# Altium integrated library TI_Logic_Flip-Flop,Latch,Register.IntLib: 2598 symbols (part 14 of 122)
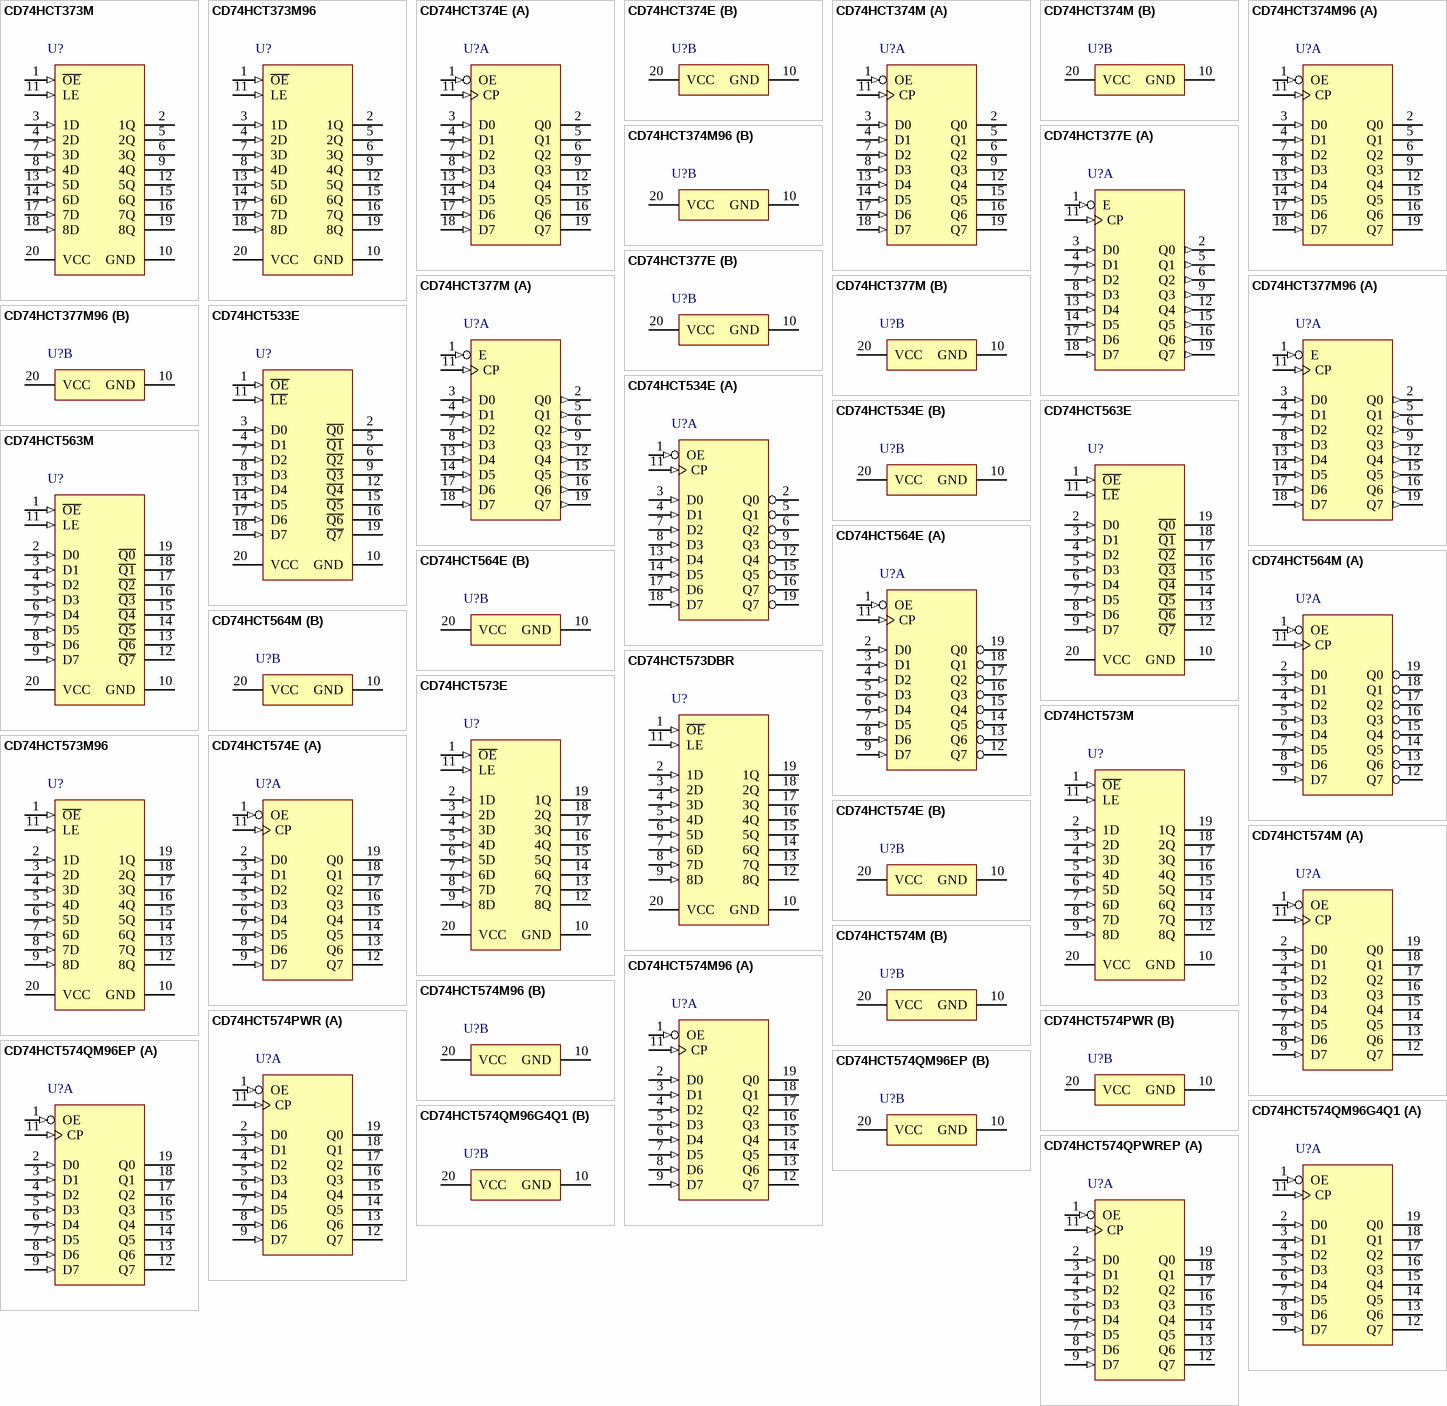
[diagram p152: symbols CD74HCT373M to CD74HCT574QPWREP]

## CD74HCT574E
designator U?
High Speed CMOS Logic Octal Positive-Edge-Triggered D-Type Flip-Flops with 3-State Outputs, N0020A, TUBE; Generic Part Number: CD74HCT574; Manufacturer: Texas Instruments; PartNumber: CD74HCT574E; VCC(Min)(V): 4.5; VCC(Max)(V): 5.5; ICC @ Nom Voltage(Max)(mA): 0.08; Input Type: TTL; Bits(#): 8; F @ Nom Voltage(Max)(Mhz): 25; Rating: Catalog; Technology Family: HCT; Voltage(Nom)(V): 5; Schmitt Trigger: No; Output Drive (IOL/IOH)(Max)(mA): 6/-6; Output Logic: Non-inverted; 3-State Output: Yes; tpd @ Nom Voltage(Max)(ns): 41; DatasheetVersion: SCHS183C; PackageReference: N0020A; Supplier 1: Digi-Key; Supplier Part Number 1: 296-2129-5-ND; Supplier 2: Farnell; Supplier Part Number 2: 2148426; Supplier 3: Newark; Supplier Part Number 3: 67K0129; Supplier 4: Mouser; Supplier Part Number 4: 595-CD74HCT574E; Output Type: CMOS; Operating Temperature Range(C): -55 to 125; Code_JEDEC: MS-001; ComponentLink1Description: Manufacturer URL; ComponentLink1URL: http://www.ti.com/; ComponentLink2Description: Datasheet; ComponentLink2URL: http://www.ti.com/lit/ds/symlink/cd74hct574.pdf; ComponentLink3Description: Package Specification; ComponentLink3URL: http://www.ti.com/lit/ml/mpdi002c/mpdi002c.pdf
footprint N0020A (DIP, 20-Leads, Body 26.9x6.6mm, Pitch 2.54mm)
part A pins: 1 OE (in), 2 D0 (in), 3 D1 (in), 4 D2 (in), 5 D3 (in), 6 D4 (in), 7 D5 (in), 8 D6 (in), 9 D7 (in), 11 CP (in), 12 Q7 (hiz), 13 Q6 (hiz), 14 Q5 (hiz), 15 Q4 (hiz), 16 Q3 (hiz), 17 Q2 (hiz), 18 Q1 (hiz), 19 Q0 (hiz)
part B pins: 10 GND (power), 20 VCC (power)

## CD74HCT574M
designator U?
High Speed CMOS Logic Octal Positive-Edge-Triggered D-Type Flip-Flops with 3-State Outputs, DW0020A, TUBE; Generic Part Number: CD74HCT574; Manufacturer: Texas Instruments; PartNumber: CD74HCT574M; VCC(Min)(V): 4.5; VCC(Max)(V): 5.5; ICC @ Nom Voltage(Max)(mA): 0.08; Input Type: TTL; Bits(#): 8; F @ Nom Voltage(Max)(Mhz): 25; Rating: Catalog; Technology Family: HCT; Voltage(Nom)(V): 5; Schmitt Trigger: No; Output Drive (IOL/IOH)(Max)(mA): 6/-6; Output Logic: Non-inverted; 3-State Output: Yes; tpd @ Nom Voltage(Max)(ns): 41; DatasheetVersion: SCHS183C; PackageReference: DW0020A; Supplier 1: Digi-Key; Supplier Part Number 1: 296-33162-5-ND; Supplier 2: Farnell; Supplier Part Number 2: 1103146; Supplier 3: Newark; Supplier Part Number 3: 25M8618; Supplier 4: Mouser; Supplier Part Number 4: 595-CD74HCT574M; Output Type: CMOS; Operating Temperature Range(C): -55 to 125; Code_JEDEC: MS-013; ComponentLink1Description: Manufacturer URL; ComponentLink1URL: http://www.ti.com/; ComponentLink2Description: Datasheet; ComponentLink2URL: http://www.ti.com/lit/ds/symlink/cd74hct574.pdf; ComponentLink3Description: Package Specification; ComponentLink3URL: http://www.ti.com/lit/ml/mpds173a/mpds173a.pdf
footprint DW0020A_N (SOIC, 20-Leads, Body 13x7.6mm, Pitch 1.27mm, IPC Medium Density)
footprint DW0020A_M (SOIC, 20-Leads, Body 13x7.6mm, Pitch 1.27mm, IPC Low Density)
footprint DW0020A_L (SOIC, 20-Leads, Body 13x7.6mm, Pitch 1.27mm, IPC High Density)
part A pins: 1 OE (in), 2 D0 (in), 3 D1 (in), 4 D2 (in), 5 D3 (in), 6 D4 (in), 7 D5 (in), 8 D6 (in), 9 D7 (in), 11 CP (in), 12 Q7 (hiz), 13 Q6 (hiz), 14 Q5 (hiz), 15 Q4 (hiz), 16 Q3 (hiz), 17 Q2 (hiz), 18 Q1 (hiz), 19 Q0 (hiz)
part B pins: 10 GND (power), 20 VCC (power)

## CD74HCT574M96
designator U?
High Speed CMOS Logic Octal Positive-Edge-Triggered D-Type Flip-Flops with 3-State Outputs, DW0020A, LARGE T&R; Generic Part Number: CD74HCT574; Manufacturer: Texas Instruments; PartNumber: CD74HCT574M96; VCC(Min)(V): 4.5; VCC(Max)(V): 5.5; ICC @ Nom Voltage(Max)(mA): 0.08; Input Type: TTL; Bits(#): 8; F @ Nom Voltage(Max)(Mhz): 25; Rating: Catalog; Technology Family: HCT; Voltage(Nom)(V): 5; Schmitt Trigger: No; Output Drive (IOL/IOH)(Max)(mA): 6/-6; Output Logic: Non-inverted; 3-State Output: Yes; tpd @ Nom Voltage(Max)(ns): 41; DatasheetVersion: SCHS183C; PackageReference: DW0020A; Supplier 1: Digi-Key; Supplier Part Number 1: 296-9292-2-ND; Supplier 2: Digi-Key; Supplier Part Number 2: 296-9292-1-ND; Supplier 3: Digi-Key; Supplier Part Number 3: 296-9292-6-ND; Supplier 4: Newark; Supplier Part Number 4: 05B6075; Supplier 5: Mouser; Supplier Part Number 5: 595-CD74HCT574M96; Output Type: CMOS; Operating Temperature Range(C): -55 to 125; Code_JEDEC: MS-013; ComponentLink1Description: Manufacturer URL; ComponentLink1URL: http://www.ti.com/; ComponentLink2Description: Datasheet; ComponentLink2URL: http://www.ti.com/lit/ds/symlink/cd74hct574.pdf; ComponentLink3Description: Package Specification; ComponentLink3URL: http://www.ti.com/lit/ml/mpds173a/mpds173a.pdf
footprint DW0020A_N (SOIC, 20-Leads, Body 13x7.6mm, Pitch 1.27mm, IPC Medium Density)
footprint DW0020A_M (SOIC, 20-Leads, Body 13x7.6mm, Pitch 1.27mm, IPC Low Density)
footprint DW0020A_L (SOIC, 20-Leads, Body 13x7.6mm, Pitch 1.27mm, IPC High Density)
part A pins: 1 OE (in), 2 D0 (in), 3 D1 (in), 4 D2 (in), 5 D3 (in), 6 D4 (in), 7 D5 (in), 8 D6 (in), 9 D7 (in), 11 CP (in), 12 Q7 (hiz), 13 Q6 (hiz), 14 Q5 (hiz), 15 Q4 (hiz), 16 Q3 (hiz), 17 Q2 (hiz), 18 Q1 (hiz), 19 Q0 (hiz)
part B pins: 10 GND (power), 20 VCC (power)

## CD74HCT574PWR
designator U?
High Speed CMOS Logic Octal Positive-Edge-Triggered D-Type Flip-Flops with 3-State Outputs, PW0020A, LARGE T&R; Generic Part Number: CD74HCT574; Manufacturer: Texas Instruments; PartNumber: CD74HCT574PWR; VCC(Min)(V): 4.5; VCC(Max)(V): 5.5; ICC @ Nom Voltage(Max)(mA): 0.08; Input Type: TTL; Bits(#): 8; F @ Nom Voltage(Max)(Mhz): 25; Rating: Catalog; Technology Family: HCT; Voltage(Nom)(V): 5; Schmitt Trigger: No; Output Drive (IOL/IOH)(Max)(mA): 6/-6; Output Logic: Non-inverted; 3-State Output: Yes; tpd @ Nom Voltage(Max)(ns): 41; DatasheetVersion: SCHS183C; PackageReference: PW0020A; Supplier 1: Digi-Key; Supplier Part Number 1: 296-17126-2-ND; Supplier 2: Digi-Key; Supplier Part Number 2: 296-17126-1-ND; Supplier 3: Digi-Key; Supplier Part Number 3: 296-17126-6-ND; Supplier 4: Newark; Supplier Part Number 4: 10J9041; Supplier 5: Mouser; Supplier Part Number 5: 595-CD74HCT574PWR; Output Type: CMOS; Operating Temperature Range(C): -55 to 125; Code_JEDEC: MO-153; ComponentLink1Description: Manufacturer URL; ComponentLink1URL: http://www.ti.com/; ComponentLink2Description: Datasheet; ComponentLink2URL: http://www.ti.com/lit/ds/symlink/cd74hct574.pdf; ComponentLink3Description: Package Specification; ComponentLink3URL: http://www.ti.com/lit/ml/mpds362/mpds362.pdf
footprint PW0020A_N (SOP, 20-Leads, Body 6.6x4.5mm, Pitch 0.65mm, IPC Medium Density)
footprint PW0020A_M (SOP, 20-Leads, Body 6.6x4.5mm, Pitch 0.65mm, IPC Low Density)
footprint PW0020A_L (SOP, 20-Leads, Body 6.6x4.5mm, Pitch 0.65mm, IPC High Density)
part A pins: 1 OE (in), 2 D0 (in), 3 D1 (in), 4 D2 (in), 5 D3 (in), 6 D4 (in), 7 D5 (in), 8 D6 (in), 9 D7 (in), 11 CP (in), 12 Q7 (hiz), 13 Q6 (hiz), 14 Q5 (hiz), 15 Q4 (hiz), 16 Q3 (hiz), 17 Q2 (hiz), 18 Q1 (hiz), 19 Q0 (hiz)
part B pins: 10 GND (power), 20 VCC (power)

## CD74HCT574QM96EP
designator U?
Enhanced Product High Speed Cmos Logic Octal Positive-Edge-Triggered D-Type Flip-Flops With, DW0020A, LARGE T&R; Generic Part Number: CD74HCT574-EP; Manufacturer: Texas Instruments; PartNumber: CD74HCT574QM96EP; VCC(Min)(V): 4.5; VCC(Max)(V): 5.5; ICC @ Nom Voltage(Max)(mA): 0.08; Input Type: TTL; Bits(#): 8; F @ Nom Voltage(Max)(Mhz): 25; Rating: HiRel Enhanced Product; Technology Family: HCT; Voltage(Nom)(V): 5; Schmitt Trigger: No; Output Drive (IOL/IOH)(Max)(mA): 6/-6; Output Logic: Non-inverted; 3-State Output: Yes; tpd @ Nom Voltage(Max)(ns): 41; DatasheetVersion: SCLS571; PackageReference: DW0020A; Supplier 1: Digi-Key; Supplier Part Number 1: 296-22106-2-ND; Supplier 2: Digi-Key; Supplier Part Number 2: 296-22106-1-ND; Supplier 3: Digi-Key; Supplier Part Number 3: 296-22106-6-ND; Supplier 4: Mouser; Supplier Part Number 4: 595-CD74HCT574QM96EP; Output Type: CMOS; Operating Temperature Range(C): -40 to 125; Code_JEDEC: MS-013; ComponentLink1Description: Manufacturer URL; ComponentLink1URL: http://www.ti.com/; ComponentLink2Description: Datasheet; ComponentLink2URL: http://www.ti.com/lit/ds/symlink/cd74hct574-ep.pdf; ComponentLink3Description: Package Specification; ComponentLink3URL: http://www.ti.com/lit/ml/mpds173a/mpds173a.pdf
footprint DW0020A_N (SOIC, 20-Leads, Body 13x7.6mm, Pitch 1.27mm, IPC Medium Density)
footprint DW0020A_M (SOIC, 20-Leads, Body 13x7.6mm, Pitch 1.27mm, IPC Low Density)
footprint DW0020A_L (SOIC, 20-Leads, Body 13x7.6mm, Pitch 1.27mm, IPC High Density)
part A pins: 1 OE (in), 2 D0 (in), 3 D1 (in), 4 D2 (in), 5 D3 (in), 6 D4 (in), 7 D5 (in), 8 D6 (in), 9 D7 (in), 11 CP (in), 12 Q7 (hiz), 13 Q6 (hiz), 14 Q5 (hiz), 15 Q4 (hiz), 16 Q3 (hiz), 17 Q2 (hiz), 18 Q1 (hiz), 19 Q0 (hiz)
part B pins: 10 GND (power), 20 VCC (power)

## CD74HCT574QM96G4Q1
designator U?
Automotive Catalog High Speed CMOS Logic Octal Positive-Edge-Triggered D-Type Flip-Flops with 3-Stat, DW0020A, LARGE T&R; Generic Part Number: CD74HCT574-Q1; Manufacturer: Texas Instruments; PartNumber: CD74HCT574QM96G4Q1; VCC(Min)(V): 4.5; VCC(Max)(V): 5.5; ICC @ Nom Voltage(Max)(mA): 0.08; Input Type: TTL; Bits(#): 8; F @ Nom Voltage(Max)(Mhz): 25; Technology Family: HCT; Voltage(Nom)(V): 5; Schmitt Trigger: No; Output Drive (IOL/IOH)(Max)(mA): 6/-6; Output Logic: Non-inverted; 3-State Output: Yes; tpd @ Nom Voltage(Max)(ns): 41; DatasheetVersion: SCLS570A; PackageReference: DW0020A; Supplier 1: Digi-Key; Supplier Part Number 1: CD74HCT574QM96G4Q1-ND; Supplier 2: Mouser; Supplier Part Number 2: 595-74HCT574QM96G4Q1; Output Type: CMOS; Operating Temperature Range(C): -40 to 125; Rating: Automotive; Code_JEDEC: MS-013; ComponentLink1Description: Manufacturer URL; ComponentLink1URL: http://www.ti.com/; ComponentLink2Description: Datasheet; ComponentLink2URL: http://www.ti.com/lit/ds/symlink/cd74hct574-q1.pdf; ComponentLink3Description: Package Specification; ComponentLink3URL: http://www.ti.com/lit/ml/mpds173a/mpds173a.pdf
footprint DW0020A_N (SOIC, 20-Leads, Body 13x7.6mm, Pitch 1.27mm, IPC Medium Density)
footprint DW0020A_M (SOIC, 20-Leads, Body 13x7.6mm, Pitch 1.27mm, IPC Low Density)
footprint DW0020A_L (SOIC, 20-Leads, Body 13x7.6mm, Pitch 1.27mm, IPC High Density)
part A pins: 1 OE (in), 2 D0 (in), 3 D1 (in), 4 D2 (in), 5 D3 (in), 6 D4 (in), 7 D5 (in), 8 D6 (in), 9 D7 (in), 11 CP (in), 12 Q7 (hiz), 13 Q6 (hiz), 14 Q5 (hiz), 15 Q4 (hiz), 16 Q3 (hiz), 17 Q2 (hiz), 18 Q1 (hiz), 19 Q0 (hiz)
part B pins: 10 GND (power), 20 VCC (power)

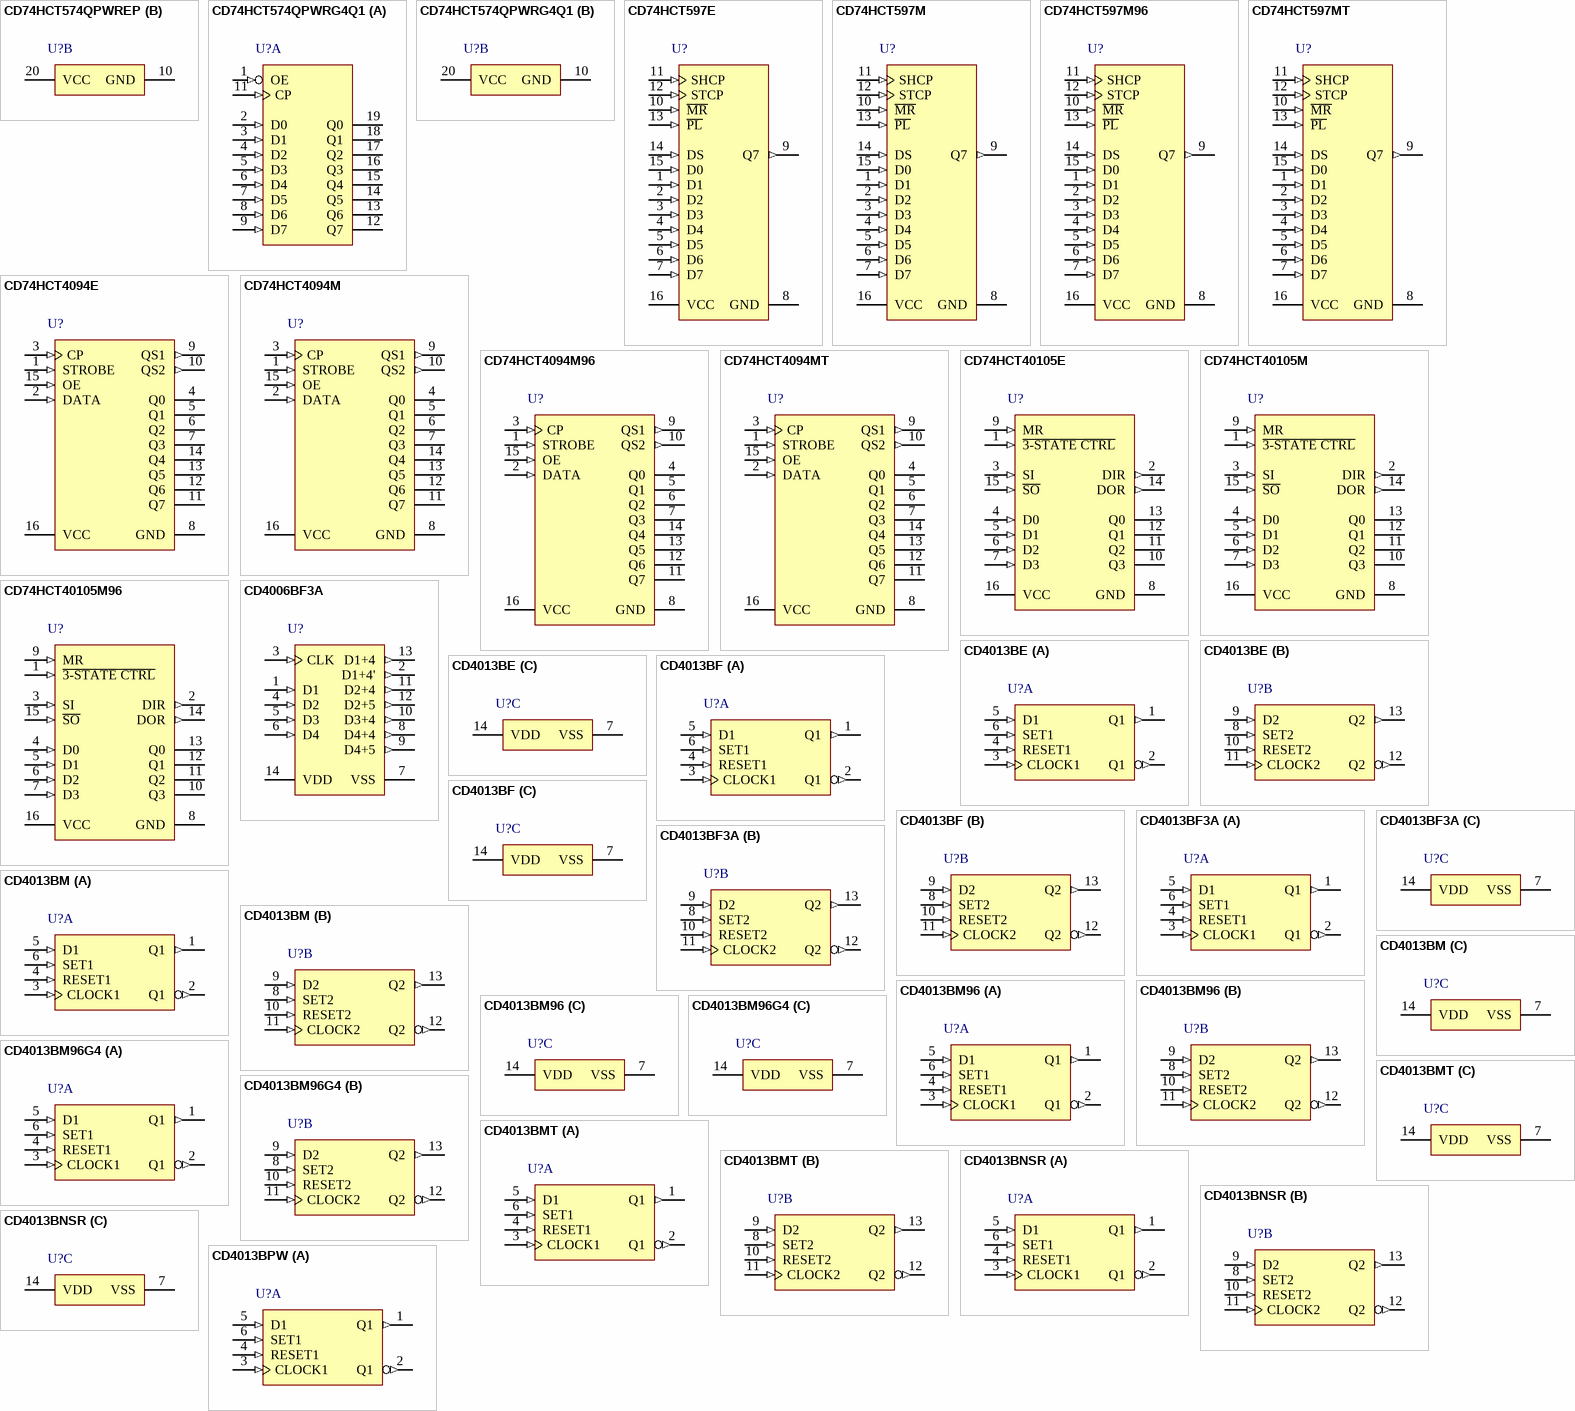
[diagram p19: symbols CD74HCT574QPWREP to CD4013BPW]

## CD74HCT574QPWREP
designator U?
Enhanced Product High Speed Cmos Logic Octal Positive-Edge-Triggered D-Type Flip-Flops With, PW0020A, LARGE T&R; Generic Part Number: CD74HCT574-EP; Manufacturer: Texas Instruments; PartNumber: CD74HCT574QPWREP; VCC(Min)(V): 4.5; VCC(Max)(V): 5.5; ICC @ Nom Voltage(Max)(mA): 0.08; Input Type: TTL; Bits(#): 8; F @ Nom Voltage(Max)(Mhz): 25; Rating: HiRel Enhanced Product; Technology Family: HCT; Voltage(Nom)(V): 5; Schmitt Trigger: No; Output Drive (IOL/IOH)(Max)(mA): 6/-6; Output Logic: Non-inverted; 3-State Output: Yes; tpd @ Nom Voltage(Max)(ns): 41; DatasheetVersion: SCLS571; PackageReference: PW0020A; Supplier 1: Digi-Key; Supplier Part Number 1: 296-22107-2-ND; Supplier 2: Digi-Key; Supplier Part Number 2: 296-22107-1-ND; Supplier 3: Digi-Key; Supplier Part Number 3: 296-22107-6-ND; Supplier 4: Mouser; Supplier Part Number 4: 595-CD74HCT574QPWREP; Output Type: CMOS; Operating Temperature Range(C): -40 to 125; Code_JEDEC: MO-153; ComponentLink1Description: Manufacturer URL; ComponentLink1URL: http://www.ti.com/; ComponentLink2Description: Datasheet; ComponentLink2URL: http://www.ti.com/lit/ds/symlink/cd74hct574-ep.pdf; ComponentLink3Description: Package Specification; ComponentLink3URL: http://www.ti.com/lit/ml/mpds362/mpds362.pdf
footprint PW0020A_N (SOP, 20-Leads, Body 6.6x4.5mm, Pitch 0.65mm, IPC Medium Density)
footprint PW0020A_M (SOP, 20-Leads, Body 6.6x4.5mm, Pitch 0.65mm, IPC Low Density)
footprint PW0020A_L (SOP, 20-Leads, Body 6.6x4.5mm, Pitch 0.65mm, IPC High Density)
part A pins: 1 OE (in), 2 D0 (in), 3 D1 (in), 4 D2 (in), 5 D3 (in), 6 D4 (in), 7 D5 (in), 8 D6 (in), 9 D7 (in), 11 CP (in), 12 Q7 (hiz), 13 Q6 (hiz), 14 Q5 (hiz), 15 Q4 (hiz), 16 Q3 (hiz), 17 Q2 (hiz), 18 Q1 (hiz), 19 Q0 (hiz)
part B pins: 10 GND (power), 20 VCC (power)

## CD74HCT574QPWRG4Q1
designator U?
Automotive Catalog High Speed CMOS Logic Octal Positive-Edge-Triggered D-Type Flip-Flops with 3-Stat, PW0020A, LARGE T&R; Generic Part Number: CD74HCT574-Q1; Manufacturer: Texas Instruments; PartNumber: CD74HCT574QPWRG4Q1; VCC(Min)(V): 4.5; VCC(Max)(V): 5.5; ICC @ Nom Voltage(Max)(mA): 0.08; Input Type: TTL; Bits(#): 8; F @ Nom Voltage(Max)(Mhz): 25; Technology Family: HCT; Voltage(Nom)(V): 5; Schmitt Trigger: No; Output Drive (IOL/IOH)(Max)(mA): 6/-6; Output Logic: Non-inverted; 3-State Output: Yes; tpd @ Nom Voltage(Max)(ns): 41; DatasheetVersion: SCLS570A; PackageReference: PW0020A; Supplier 1: Digi-Key; Supplier Part Number 1: CD74HCT574QPWRG4Q1-ND; Supplier 2: Mouser; Supplier Part Number 2: 595-74HCT574QPWRG4Q1; Output Type: CMOS; Operating Temperature Range(C): -40 to 125; Rating: Automotive; Code_JEDEC: MO-153; ComponentLink1Description: Manufacturer URL; ComponentLink1URL: http://www.ti.com/; ComponentLink2Description: Datasheet; ComponentLink2URL: http://www.ti.com/lit/ds/symlink/cd74hct574-q1.pdf; ComponentLink3Description: Package Specification; ComponentLink3URL: http://www.ti.com/lit/ml/mpds362/mpds362.pdf
footprint PW0020A_N (SOP, 20-Leads, Body 6.6x4.5mm, Pitch 0.65mm, IPC Medium Density)
footprint PW0020A_M (SOP, 20-Leads, Body 6.6x4.5mm, Pitch 0.65mm, IPC Low Density)
footprint PW0020A_L (SOP, 20-Leads, Body 6.6x4.5mm, Pitch 0.65mm, IPC High Density)
part A pins: 1 OE (in), 2 D0 (in), 3 D1 (in), 4 D2 (in), 5 D3 (in), 6 D4 (in), 7 D5 (in), 8 D6 (in), 9 D7 (in), 11 CP (in), 12 Q7 (hiz), 13 Q6 (hiz), 14 Q5 (hiz), 15 Q4 (hiz), 16 Q3 (hiz), 17 Q2 (hiz), 18 Q1 (hiz), 19 Q0 (hiz)
part B pins: 10 GND (power), 20 VCC (power)

## CD74HCT597E
designator U?
High Speed CMOS Logic 8-Bit Shift Register with Input Storage, N0016A, TUBE; Generic Part Number: CD74HCT597; Manufacturer: Texas Instruments; PartNumber: CD74HCT597E; Technology Family: HCT; VCC(Min)(V): 4.5; VCC(Max)(V): 5.5; Voltage(Nom)(V): 5; F @ Nom Voltage(Max)(Mhz): 25; ICC @ Nom Voltage(Max)(mA): 0.08; tpd @ Nom Voltage(Max)(ns): 48; Output Drive (IOL/IOH)(Max)(mA): 4/-4; Input Type: TTL; 3-State Output: No; Rating: Catalog; Bits: 8; DatasheetVersion: SCHS191C; PackageReference: N0016A; Output Type: CMOS; Operating Temperature Range(C): -55 to 125; Code_JEDEC: MS-001; ComponentLink1Description: Manufacturer URL; ComponentLink1URL: http://www.ti.com/; ComponentLink2Description: Datasheet; ComponentLink2URL: http://www.ti.com/lit/ds/symlink/cd74hct597.pdf; ComponentLink3Description: Package Specification; ComponentLink3URL: http://www.ti.com/lit/ml/mpdi002c/mpdi002c.pdf
footprint N0016A (DIP, 16-Leads, Body 19.7x6.6mm, Pitch 2.54mm)
pins: 1 D1 (in), 2 D2 (in), 3 D3 (in), 4 D4 (in), 5 D5 (in), 6 D6 (in), 7 D7 (in), 8 GND (power), 9 Q7 (out), 10 ~{MR} (in), 11 SHCP (in), 12 STCP (in), 13 ~{PL} (in), 14 DS (in), 15 D0 (in), 16 VCC (power)

## CD74HCT597M
designator U?
High Speed CMOS Logic 8-Bit Shift Register with Input Storage, D0016A, TUBE; Generic Part Number: CD74HCT597; Manufacturer: Texas Instruments; PartNumber: CD74HCT597M; Technology Family: HCT; VCC(Min)(V): 4.5; VCC(Max)(V): 5.5; Voltage(Nom)(V): 5; F @ Nom Voltage(Max)(Mhz): 25; ICC @ Nom Voltage(Max)(mA): 0.08; tpd @ Nom Voltage(Max)(ns): 48; Output Drive (IOL/IOH)(Max)(mA): 4/-4; Input Type: TTL; 3-State Output: No; Rating: Catalog; Bits: 8; DatasheetVersion: SCHS191C; PackageReference: D0016A; Output Type: CMOS; Operating Temperature Range(C): -55 to 125; Code_JEDEC: MS-012 variation AC; ComponentLink1Description: Manufacturer URL; ComponentLink1URL: http://www.ti.com/; ComponentLink2Description: Datasheet; ComponentLink2URL: http://www.ti.com/lit/ds/symlink/cd74hct597.pdf; ComponentLink3Description: Package Specification; ComponentLink3URL: http://www.ti.com/lit/ml/mpds178g/mpds178g.pdf
footprint D0016A_N (SOIC, 16-Leads, Body 10x4mm, Pitch 1.27mm, IPC Medium Density)
footprint D0016A_M (SOIC, 16-Leads, Body 10x4mm, Pitch 1.27mm, IPC Low Density)
footprint D0016A_L (SOIC, 16-Leads, Body 10x4mm, Pitch 1.27mm, IPC High Density)
pins: 1 D1 (in), 2 D2 (in), 3 D3 (in), 4 D4 (in), 5 D5 (in), 6 D6 (in), 7 D7 (in), 8 GND (power), 9 Q7 (out), 10 ~{MR} (in), 11 SHCP (in), 12 STCP (in), 13 ~{PL} (in), 14 DS (in), 15 D0 (in), 16 VCC (power)

## CD74HCT597M96
designator U?
High Speed CMOS Logic 8-Bit Shift Register with Input Storage, D0016A, LARGE T&R; Generic Part Number: CD74HCT597; Manufacturer: Texas Instruments; PartNumber: CD74HCT597M96; Technology Family: HCT; VCC(Min)(V): 4.5; VCC(Max)(V): 5.5; Voltage(Nom)(V): 5; F @ Nom Voltage(Max)(Mhz): 25; ICC @ Nom Voltage(Max)(mA): 0.08; tpd @ Nom Voltage(Max)(ns): 48; Output Drive (IOL/IOH)(Max)(mA): 4/-4; Input Type: TTL; 3-State Output: No; Rating: Catalog; Bits: 8; DatasheetVersion: SCHS191C; PackageReference: D0016A; Output Type: CMOS; Operating Temperature Range(C): -55 to 125; Code_JEDEC: MS-012 variation AC; ComponentLink1Description: Manufacturer URL; ComponentLink1URL: http://www.ti.com/; ComponentLink2Description: Datasheet; ComponentLink2URL: http://www.ti.com/lit/ds/symlink/cd74hct597.pdf; ComponentLink3Description: Package Specification; ComponentLink3URL: http://www.ti.com/lit/ml/mpds178g/mpds178g.pdf
footprint D0016A_N (SOIC, 16-Leads, Body 10x4mm, Pitch 1.27mm, IPC Medium Density)
footprint D0016A_M (SOIC, 16-Leads, Body 10x4mm, Pitch 1.27mm, IPC Low Density)
footprint D0016A_L (SOIC, 16-Leads, Body 10x4mm, Pitch 1.27mm, IPC High Density)
pins: 1 D1 (in), 2 D2 (in), 3 D3 (in), 4 D4 (in), 5 D5 (in), 6 D6 (in), 7 D7 (in), 8 GND (power), 9 Q7 (out), 10 ~{MR} (in), 11 SHCP (in), 12 STCP (in), 13 ~{PL} (in), 14 DS (in), 15 D0 (in), 16 VCC (power)

## CD74HCT597MT
designator U?
High Speed CMOS Logic 8-Bit Shift Register with Input Storage, D0016A, SMALL T&R; Generic Part Number: CD74HCT597; Manufacturer: Texas Instruments; PartNumber: CD74HCT597MT; Technology Family: HCT; VCC(Min)(V): 4.5; VCC(Max)(V): 5.5; Voltage(Nom)(V): 5; F @ Nom Voltage(Max)(Mhz): 25; ICC @ Nom Voltage(Max)(mA): 0.08; tpd @ Nom Voltage(Max)(ns): 48; Output Drive (IOL/IOH)(Max)(mA): 4/-4; Input Type: TTL; 3-State Output: No; Rating: Catalog; Bits: 8; DatasheetVersion: SCHS191C; PackageReference: D0016A; Output Type: CMOS; Operating Temperature Range(C): -55 to 125; Code_JEDEC: MS-012 variation AC; ComponentLink1Description: Manufacturer URL; ComponentLink1URL: http://www.ti.com/; ComponentLink2Description: Datasheet; ComponentLink2URL: http://www.ti.com/lit/ds/symlink/cd74hct597.pdf; ComponentLink3Description: Package Specification; ComponentLink3URL: http://www.ti.com/lit/ml/mpds178g/mpds178g.pdf
footprint D0016A_N (SOIC, 16-Leads, Body 10x4mm, Pitch 1.27mm, IPC Medium Density)
footprint D0016A_M (SOIC, 16-Leads, Body 10x4mm, Pitch 1.27mm, IPC Low Density)
footprint D0016A_L (SOIC, 16-Leads, Body 10x4mm, Pitch 1.27mm, IPC High Density)
pins: 1 D1 (in), 2 D2 (in), 3 D3 (in), 4 D4 (in), 5 D5 (in), 6 D6 (in), 7 D7 (in), 8 GND (power), 9 Q7 (out), 10 ~{MR} (in), 11 SHCP (in), 12 STCP (in), 13 ~{PL} (in), 14 DS (in), 15 D0 (in), 16 VCC (power)

## CD74HCT4094E
designator U?
High Speed CMOS Logic 8-Stage Shift-and-Store Bus Register with 3-Stage Outputs, N0016A, TUBE; Generic Part Number: CD74HCT4094; Manufacturer: Texas Instruments; PartNumber: CD74HCT4094E; Technology Family: HCT; VCC(Min)(V): 4.5; VCC(Max)(V): 5.5; Voltage(Nom)(V): 5; F @ Nom Voltage(Max)(Mhz): 25; ICC @ Nom Voltage(Max)(mA): 0.08; tpd @ Nom Voltage(Max)(ns): 43; Output Drive (IOL/IOH)(Max)(mA): 4/-4; Input Type: TTL; 3-State Output: Yes; Rating: Catalog; Bits: 8; DatasheetVersion: SCHS211E; PackageReference: N0016A; Output Type: CMOS; Operating Temperature Range(C): -55 to 125; Code_JEDEC: MS-001; ComponentLink1Description: Manufacturer URL; ComponentLink1URL: http://www.ti.com/; ComponentLink2Description: Datasheet; ComponentLink2URL: http://www.ti.com/lit/ds/symlink/cd74hct4094.pdf; ComponentLink3Description: Package Specification; ComponentLink3URL: http://www.ti.com/lit/ml/mpdi002c/mpdi002c.pdf
footprint N0016A (DIP, 16-Leads, Body 19.7x6.6mm, Pitch 2.54mm)
pins: 1 STROBE (in), 2 DATA (in), 3 CP (in), 4 Q0 (hiz), 5 Q1 (hiz), 6 Q2 (hiz), 7 Q3 (hiz), 8 GND (power), 9 QS1 (out), 10 QS2 (out), 11 Q7 (hiz), 12 Q6 (hiz), 13 Q5 (hiz), 14 Q4 (hiz), 15 OE (in), 16 VCC (power)

## CD74HCT4094M
designator U?
High Speed CMOS Logic 8-Stage Shift-and-Store Bus Register with 3-Stage Outputs, D0016A, TUBE; Generic Part Number: CD74HCT4094; Manufacturer: Texas Instruments; PartNumber: CD74HCT4094M; Technology Family: HCT; VCC(Min)(V): 4.5; VCC(Max)(V): 5.5; Voltage(Nom)(V): 5; F @ Nom Voltage(Max)(Mhz): 25; ICC @ Nom Voltage(Max)(mA): 0.08; tpd @ Nom Voltage(Max)(ns): 43; Output Drive (IOL/IOH)(Max)(mA): 4/-4; Input Type: TTL; 3-State Output: Yes; Rating: Catalog; Bits: 8; DatasheetVersion: SCHS211E; PackageReference: D0016A; Output Type: CMOS; Operating Temperature Range(C): -55 to 125; Code_JEDEC: MS-012 variation AC; ComponentLink1Description: Manufacturer URL; ComponentLink1URL: http://www.ti.com/; ComponentLink2Description: Datasheet; ComponentLink2URL: http://www.ti.com/lit/ds/symlink/cd74hct4094.pdf; ComponentLink3Description: Package Specification; ComponentLink3URL: http://www.ti.com/lit/ml/mpds178g/mpds178g.pdf
footprint D0016A_N (SOIC, 16-Leads, Body 10x4mm, Pitch 1.27mm, IPC Medium Density)
footprint D0016A_M (SOIC, 16-Leads, Body 10x4mm, Pitch 1.27mm, IPC Low Density)
footprint D0016A_L (SOIC, 16-Leads, Body 10x4mm, Pitch 1.27mm, IPC High Density)
pins: 1 STROBE (in), 2 DATA (in), 3 CP (in), 4 Q0 (hiz), 5 Q1 (hiz), 6 Q2 (hiz), 7 Q3 (hiz), 8 GND (power), 9 QS1 (out), 10 QS2 (out), 11 Q7 (hiz), 12 Q6 (hiz), 13 Q5 (hiz), 14 Q4 (hiz), 15 OE (in), 16 VCC (power)

## CD74HCT4094M96
designator U?
High Speed CMOS Logic 8-Stage Shift-and-Store Bus Register with 3-Stage Outputs, D0016A, LARGE T&R; Generic Part Number: CD74HCT4094; Manufacturer: Texas Instruments; PartNumber: CD74HCT4094M96; Technology Family: HCT; VCC(Min)(V): 4.5; VCC(Max)(V): 5.5; Voltage(Nom)(V): 5; F @ Nom Voltage(Max)(Mhz): 25; ICC @ Nom Voltage(Max)(mA): 0.08; tpd @ Nom Voltage(Max)(ns): 43; Output Drive (IOL/IOH)(Max)(mA): 4/-4; Input Type: TTL; 3-State Output: Yes; Rating: Catalog; Bits: 8; DatasheetVersion: SCHS211E; PackageReference: D0016A; Output Type: CMOS; Operating Temperature Range(C): -55 to 125; Code_JEDEC: MS-012 variation AC; ComponentLink1Description: Manufacturer URL; ComponentLink1URL: http://www.ti.com/; ComponentLink2Description: Datasheet; ComponentLink2URL: http://www.ti.com/lit/ds/symlink/cd74hct4094.pdf; ComponentLink3Description: Package Specification; ComponentLink3URL: http://www.ti.com/lit/ml/mpds178g/mpds178g.pdf
footprint D0016A_N (SOIC, 16-Leads, Body 10x4mm, Pitch 1.27mm, IPC Medium Density)
footprint D0016A_M (SOIC, 16-Leads, Body 10x4mm, Pitch 1.27mm, IPC Low Density)
footprint D0016A_L (SOIC, 16-Leads, Body 10x4mm, Pitch 1.27mm, IPC High Density)
pins: 1 STROBE (in), 2 DATA (in), 3 CP (in), 4 Q0 (hiz), 5 Q1 (hiz), 6 Q2 (hiz), 7 Q3 (hiz), 8 GND (power), 9 QS1 (out), 10 QS2 (out), 11 Q7 (hiz), 12 Q6 (hiz), 13 Q5 (hiz), 14 Q4 (hiz), 15 OE (in), 16 VCC (power)

## CD74HCT4094MT
designator U?
High Speed CMOS Logic 8-Stage Shift-and-Store Bus Register with 3-Stage Outputs, D0016A, SMALL T&R; Generic Part Number: CD74HCT4094; Manufacturer: Texas Instruments; PartNumber: CD74HCT4094MT; Technology Family: HCT; VCC(Min)(V): 4.5; VCC(Max)(V): 5.5; Voltage(Nom)(V): 5; F @ Nom Voltage(Max)(Mhz): 25; ICC @ Nom Voltage(Max)(mA): 0.08; tpd @ Nom Voltage(Max)(ns): 43; Output Drive (IOL/IOH)(Max)(mA): 4/-4; Input Type: TTL; 3-State Output: Yes; Rating: Catalog; Bits: 8; DatasheetVersion: SCHS211E; PackageReference: D0016A; Output Type: CMOS; Operating Temperature Range(C): -55 to 125; Code_JEDEC: MS-012 variation AC; ComponentLink1Description: Manufacturer URL; ComponentLink1URL: http://www.ti.com/; ComponentLink2Description: Datasheet; ComponentLink2URL: http://www.ti.com/lit/ds/symlink/cd74hct4094.pdf; ComponentLink3Description: Package Specification; ComponentLink3URL: http://www.ti.com/lit/ml/mpds178g/mpds178g.pdf
footprint D0016A_N (SOIC, 16-Leads, Body 10x4mm, Pitch 1.27mm, IPC Medium Density)
footprint D0016A_M (SOIC, 16-Leads, Body 10x4mm, Pitch 1.27mm, IPC Low Density)
footprint D0016A_L (SOIC, 16-Leads, Body 10x4mm, Pitch 1.27mm, IPC High Density)
pins: 1 STROBE (in), 2 DATA (in), 3 CP (in), 4 Q0 (hiz), 5 Q1 (hiz), 6 Q2 (hiz), 7 Q3 (hiz), 8 GND (power), 9 QS1 (out), 10 QS2 (out), 11 Q7 (hiz), 12 Q6 (hiz), 13 Q5 (hiz), 14 Q4 (hiz), 15 OE (in), 16 VCC (power)

## CD74HCT40105E
designator U?
High Speed CMOS Logic 4-Bit by 16-Word FIFO Register, N0016A, TUBE; Generic Part Number: CD74HCT40105; Manufacturer: Texas Instruments; PartNumber: CD74HCT40105E; DatasheetVersion: SCHS222C; PackageReference: N0016A; Code_JEDEC: MS-001; ComponentLink1Description: Manufacturer URL; ComponentLink1URL: http://www.ti.com/; ComponentLink2Description: Datasheet; ComponentLink2URL: http://www.ti.com/lit/ds/symlink/cd74hct40105.pdf; ComponentLink3Description: Package Specification; ComponentLink3URL: http://www.ti.com/lit/ml/mpdi002c/mpdi002c.pdf
footprint N0016A (DIP, 16-Leads, Body 19.7x6.6mm, Pitch 2.54mm)
pins: 1 ~{3-STATE CTRL} (in), 2 DIR (out), 3 SI (in), 4 D0 (in), 5 D1 (in), 6 D2 (in), 7 D3 (in), 8 GND (power), 9 MR (in), 10 Q3 (hiz), 11 Q2 (hiz), 12 Q1 (hiz), 13 Q0 (hiz), 14 DOR (out), 15 ~{SO} (in), 16 VCC (power)

## CD74HCT40105M
designator U?
High Speed CMOS Logic 4-Bit by 16-Word FIFO Register, D0016A, TUBE; Generic Part Number: CD74HCT40105; Manufacturer: Texas Instruments; PartNumber: CD74HCT40105M; DatasheetVersion: SCHS222C; PackageReference: D0016A; Code_JEDEC: MS-012 variation AC; ComponentLink1Description: Manufacturer URL; ComponentLink1URL: http://www.ti.com/; ComponentLink2Description: Datasheet; ComponentLink2URL: http://www.ti.com/lit/ds/symlink/cd74hct40105.pdf; ComponentLink3Description: Package Specification; ComponentLink3URL: http://www.ti.com/lit/ml/mpds178g/mpds178g.pdf
footprint D0016A_N (SOIC, 16-Leads, Body 10x4mm, Pitch 1.27mm, IPC Medium Density)
footprint D0016A_M (SOIC, 16-Leads, Body 10x4mm, Pitch 1.27mm, IPC Low Density)
footprint D0016A_L (SOIC, 16-Leads, Body 10x4mm, Pitch 1.27mm, IPC High Density)
pins: 1 ~{3-STATE CTRL} (in), 2 DIR (out), 3 SI (in), 4 D0 (in), 5 D1 (in), 6 D2 (in), 7 D3 (in), 8 GND (power), 9 MR (in), 10 Q3 (hiz), 11 Q2 (hiz), 12 Q1 (hiz), 13 Q0 (hiz), 14 DOR (out), 15 ~{SO} (in), 16 VCC (power)

## CD74HCT40105M96
designator U?
High Speed CMOS Logic 4-Bit by 16-Word FIFO Register, D0016A, LARGE T&R; Generic Part Number: CD74HCT40105; Manufacturer: Texas Instruments; PartNumber: CD74HCT40105M96; DatasheetVersion: SCHS222C; PackageReference: D0016A; Code_JEDEC: MS-012 variation AC; ComponentLink1Description: Manufacturer URL; ComponentLink1URL: http://www.ti.com/; ComponentLink2Description: Datasheet; ComponentLink2URL: http://www.ti.com/lit/ds/symlink/cd74hct40105.pdf; ComponentLink3Description: Package Specification; ComponentLink3URL: http://www.ti.com/lit/ml/mpds178g/mpds178g.pdf
footprint D0016A_N (SOIC, 16-Leads, Body 10x4mm, Pitch 1.27mm, IPC Medium Density)
footprint D0016A_M (SOIC, 16-Leads, Body 10x4mm, Pitch 1.27mm, IPC Low Density)
footprint D0016A_L (SOIC, 16-Leads, Body 10x4mm, Pitch 1.27mm, IPC High Density)
pins: 1 ~{3-STATE CTRL} (in), 2 DIR (out), 3 SI (in), 4 D0 (in), 5 D1 (in), 6 D2 (in), 7 D3 (in), 8 GND (power), 9 MR (in), 10 Q3 (hiz), 11 Q2 (hiz), 12 Q1 (hiz), 13 Q0 (hiz), 14 DOR (out), 15 ~{SO} (in), 16 VCC (power)

## CD4006BF3A
designator U?
CMOS 18-Stage Static Shift Register, J0014A, TUBE; Generic Part Number: CD4006B-MIL; Manufacturer: Texas Instruments; PartNumber: CD4006BF3A; Technology Family: CD4000; Rating: Military; DatasheetVersion: SCHS017; PackageReference: J0014A; Operating Temperature Range(C): -55 to 125; ComponentLink1Description: Manufacturer URL; ComponentLink1URL: http://www.ti.com/; ComponentLink2Description: Datasheet; ComponentLink2URL: http://www.ti.com/lit/ds/symlink/cd4006b-mil.pdf; ComponentLink3Description: Package Specification; ComponentLink3URL: http://www.ti.com/lit/ml/mcer002d/mcer002d.pdf
footprint J0014A (DIP, 14-Leads, Body 19.95x7.2mm, Pitch 2.54mm)
pins: 1 D1 (in), 2 D1+4' (out), 3 CLK (in), 4 D2 (in), 5 D3 (in), 6 D4 (in), 7 VSS (power), 8 D4+4 (out), 9 D4+5 (out), 10 D3+4 (out), 11 D2+4 (out), 12 D2+5 (out), 13 D1+4 (out), 14 VDD (power)

## CD4013BE
designator U?
CMOS Dual D-Type Flip Flop, N0014A, TUBE; Generic Part Number: CD4013B; Manufacturer: Texas Instruments; PartNumber: CD4013BE; VCC(Max)(V): 18; VCC(Min)(V): 3; ICC @ Nom Voltage(Max)(mA): 0.06; Bits(#): 2; F @ Nom Voltage(Max)(Mhz): 8; Rating: Military; Technology Family: CD4000; Voltage(Nom)(V): 10; Schmitt Trigger: No; Output Drive (IOL/IOH)(Max)(mA): 1.5/-1.5; Output Logic: Inverted,Non-inverted; tpd @ Nom Voltage(Max)(ns): 130; DatasheetVersion: SCHS023D; PackageReference: N0014A; Supplier 1: Digi-Key; Supplier Part Number 1: 296-2033-5-ND; Supplier 2: Farnell; Supplier Part Number 2: 1106099; Supplier 3: Farnell; Supplier Part Number 3: 2127605; Supplier 4: Newark; Supplier Part Number 4: 60K5096; Supplier 5: Mouser; Supplier Part Number 5: 595-CD4013BE; Output Type: CMOS; Input Type: CMOS; Operating Temperature Range(C): -55 to 125; 3-State Output: No; Code_JEDEC: MS-001; ComponentLink1Description: Manufacturer URL; ComponentLink1URL: http://www.ti.com/; ComponentLink2Description: Datasheet; ComponentLink2URL: http://www.ti.com/lit/ds/symlink/cd4013b.pdf; ComponentLink3Description: Package Specification; ComponentLink3URL: http://www.ti.com/lit/ml/mpdi002c/mpdi002c.pdf
footprint N0014A (DIP, 14-Leads, Body 19.7x6.6mm, Pitch 2.54mm)
part A pins: 1 Q1 (out), 2 Q1 (out), 3 CLOCK1 (in), 4 RESET1 (in), 5 D1 (in), 6 SET1 (in)
part B pins: 8 SET2 (in), 9 D2 (in), 10 RESET2 (in), 11 CLOCK2 (in), 12 Q2 (out), 13 Q2 (out)
part C pins: 7 VSS (power), 14 VDD (power)

## CD4013BF
designator U?
CMOS Dual D-Type Flip Flop, J0014A, TUBE; Generic Part Number: CD4013B-MIL; Manufacturer: Texas Instruments; PartNumber: CD4013BF; VCC(Max)(V): 18; VCC(Min)(V): 3; ICC @ Nom Voltage(Max)(mA): 0.06; Bits(#): 2; F @ Nom Voltage(Max)(Mhz): 8; Rating: Military; Technology Family: CD4000; Voltage(Nom)(V): 10; Schmitt Trigger: No; Output Drive (IOL/IOH)(Max)(mA): 1.5/-1.5; Output Logic: Inverted,Non-inverted; tpd @ Nom Voltage(Max)(ns): 130; DatasheetVersion: SCHS023D; PackageReference: J0014A; Supplier 1: Newark; Supplier Part Number 1: 06F2397; Output Type: CMOS; Input Type: CMOS; Operating Temperature Range(C): -55 to 125; 3-State Output: No; ComponentLink1Description: Manufacturer URL; ComponentLink1URL: http://www.ti.com/; ComponentLink2Description: Datasheet; ComponentLink2URL: http://www.ti.com/lit/ds/symlink/cd4013b-mil.pdf; ComponentLink3Description: Package Specification; ComponentLink3URL: http://www.ti.com/lit/ml/mcer002d/mcer002d.pdf
footprint J0014A (DIP, 14-Leads, Body 19.95x7.2mm, Pitch 2.54mm)
part A pins: 1 Q1 (out), 2 Q1 (out), 3 CLOCK1 (in), 4 RESET1 (in), 5 D1 (in), 6 SET1 (in)
part B pins: 8 SET2 (in), 9 D2 (in), 10 RESET2 (in), 11 CLOCK2 (in), 12 Q2 (out), 13 Q2 (out)
part C pins: 7 VSS (power), 14 VDD (power)

## CD4013BF3A
designator U?
CMOS Dual D-Type Flip Flop, J0014A, TUBE; Generic Part Number: CD4013B-MIL; Manufacturer: Texas Instruments; PartNumber: CD4013BF3A; VCC(Max)(V): 18; VCC(Min)(V): 3; ICC @ Nom Voltage(Max)(mA): 0.06; Bits(#): 2; F @ Nom Voltage(Max)(Mhz): 8; Rating: Military; Technology Family: CD4000; Voltage(Nom)(V): 10; Schmitt Trigger: No; Output Drive (IOL/IOH)(Max)(mA): 1.5/-1.5; Output Logic: Inverted,Non-inverted; tpd @ Nom Voltage(Max)(ns): 130; DatasheetVersion: SCHS023D; PackageReference: J0014A; Supplier 1: Newark; Supplier Part Number 1: 20J7003; Output Type: CMOS; Input Type: CMOS; Operating Temperature Range(C): -55 to 125; 3-State Output: No; ComponentLink1Description: Manufacturer URL; ComponentLink1URL: http://www.ti.com/; ComponentLink2Description: Datasheet; ComponentLink2URL: http://www.ti.com/lit/ds/symlink/cd4013b-mil.pdf; ComponentLink3Description: Package Specification; ComponentLink3URL: http://www.ti.com/lit/ml/mcer002d/mcer002d.pdf
footprint J0014A (DIP, 14-Leads, Body 19.95x7.2mm, Pitch 2.54mm)
part A pins: 1 Q1 (out), 2 Q1 (out), 3 CLOCK1 (in), 4 RESET1 (in), 5 D1 (in), 6 SET1 (in)
part B pins: 8 SET2 (in), 9 D2 (in), 10 RESET2 (in), 11 CLOCK2 (in), 12 Q2 (out), 13 Q2 (out)
part C pins: 7 VSS (power), 14 VDD (power)

## CD4013BM
designator U?
CMOS Dual D-Type Flip Flop, D0014A, TUBE; Generic Part Number: CD4013B; Manufacturer: Texas Instruments; PartNumber: CD4013BM; VCC(Max)(V): 18; VCC(Min)(V): 3; ICC @ Nom Voltage(Max)(mA): 0.06; Bits(#): 2; F @ Nom Voltage(Max)(Mhz): 8; Rating: Military; Technology Family: CD4000; Voltage(Nom)(V): 10; Schmitt Trigger: No; Output Drive (IOL/IOH)(Max)(mA): 1.5/-1.5; Output Logic: Inverted,Non-inverted; tpd @ Nom Voltage(Max)(ns): 130; DatasheetVersion: SCHS023D; PackageReference: D0014A; Supplier 1: Digi-Key; Supplier Part Number 1: 296-12972-5-ND; Supplier 2: Farnell; Supplier Part Number 2: 1122459; Supplier 3: Newark; Supplier Part Number 3: 16F4828; Supplier 4: Newark; Supplier Part Number 4: 89K9807; Supplier 5: Mouser; Supplier Part Number 5: 595-CD4013BM; Output Type: CMOS; Input Type: CMOS; Operating Temperature Range(C): -55 to 125; 3-State Output: No; Code_JEDEC: MS-012; ComponentLink1Description: Manufacturer URL; ComponentLink1URL: http://www.ti.com/; ComponentLink2Description: Datasheet; ComponentLink2URL: http://www.ti.com/lit/ds/symlink/cd4013b.pdf; ComponentLink3Description: Package Specification; ComponentLink3URL: http://www.ti.com/lit/ml/mpds177g/mpds177g.pdf
footprint D0014A_N (SOIC, 14-Leads, Body 8.75x4mm, Pitch 1.27mm, IPC Medium Density)
footprint D0014A_M (SOIC, 14-Leads, Body 8.75x4mm, Pitch 1.27mm, IPC Low Density)
footprint D0014A_L (SOIC, 14-Leads, Body 8.75x4mm, Pitch 1.27mm, IPC High Density)
part A pins: 1 Q1 (out), 2 Q1 (out), 3 CLOCK1 (in), 4 RESET1 (in), 5 D1 (in), 6 SET1 (in)
part B pins: 8 SET2 (in), 9 D2 (in), 10 RESET2 (in), 11 CLOCK2 (in), 12 Q2 (out), 13 Q2 (out)
part C pins: 7 VSS (power), 14 VDD (power)

## CD4013BM96
designator U?
CMOS Dual D-Type Flip Flop, D0014A, LARGE T&R; Generic Part Number: CD4013B; Manufacturer: Texas Instruments; PartNumber: CD4013BM96; VCC(Max)(V): 18; VCC(Min)(V): 3; ICC @ Nom Voltage(Max)(mA): 0.06; Bits(#): 2; F @ Nom Voltage(Max)(Mhz): 8; Rating: Military; Technology Family: CD4000; Voltage(Nom)(V): 10; Schmitt Trigger: No; Output Drive (IOL/IOH)(Max)(mA): 1.5/-1.5; Output Logic: Inverted,Non-inverted; tpd @ Nom Voltage(Max)(ns): 130; DatasheetVersion: SCHS023D; PackageReference: D0014A; Supplier 1: Digi-Key; Supplier Part Number 1: 296-24347-2-ND; Supplier 2: Digi-Key; Supplier Part Number 2: 296-24347-1-ND; Supplier 3: Digi-Key; Supplier Part Number 3: 296-24347-6-ND; Supplier 4: Farnell; Supplier Part Number 4: 2435631; Supplier 5: Newark; Supplier Part Number 5: 05B5583; Supplier 6: Mouser; Supplier Part Number 6: 595-CD4013BM96; Output Type: CMOS; Input Type: CMOS; Operating Temperature Range(C): -55 to 125; 3-State Output: No; Code_JEDEC: MS-012; ComponentLink1Description: Manufacturer URL; ComponentLink1URL: http://www.ti.com/; ComponentLink2Description: Datasheet; ComponentLink2URL: http://www.ti.com/lit/ds/symlink/cd4013b.pdf; ComponentLink3Description: Package Specification; ComponentLink3URL: http://www.ti.com/lit/ml/mpds177g/mpds177g.pdf
footprint D0014A_N (SOIC, 14-Leads, Body 8.75x4mm, Pitch 1.27mm, IPC Medium Density)
footprint D0014A_M (SOIC, 14-Leads, Body 8.75x4mm, Pitch 1.27mm, IPC Low Density)
footprint D0014A_L (SOIC, 14-Leads, Body 8.75x4mm, Pitch 1.27mm, IPC High Density)
part A pins: 1 Q1 (out), 2 Q1 (out), 3 CLOCK1 (in), 4 RESET1 (in), 5 D1 (in), 6 SET1 (in)
part B pins: 8 SET2 (in), 9 D2 (in), 10 RESET2 (in), 11 CLOCK2 (in), 12 Q2 (out), 13 Q2 (out)
part C pins: 7 VSS (power), 14 VDD (power)

## CD4013BM96G4
designator U?
CMOS Dual D-Type Flip Flop, D0014A, LARGE T&R; Generic Part Number: CD4013B; Manufacturer: Texas Instruments; PartNumber: CD4013BM96G4; VCC(Max)(V): 18; VCC(Min)(V): 3; ICC @ Nom Voltage(Max)(mA): 0.06; Bits(#): 2; F @ Nom Voltage(Max)(Mhz): 8; Rating: Military; Technology Family: CD4000; Voltage(Nom)(V): 10; Schmitt Trigger: No; Output Drive (IOL/IOH)(Max)(mA): 1.5/-1.5; Output Logic: Inverted,Non-inverted; tpd @ Nom Voltage(Max)(ns): 130; DatasheetVersion: SCHS023D; PackageReference: D0014A; Supplier 1: Digi-Key; Supplier Part Number 1: 296-31487-2-ND; Supplier 2: Digi-Key; Supplier Part Number 2: 296-31487-1-ND; Supplier 3: Digi-Key; Supplier Part Number 3: 296-31487-6-ND; Supplier 4: Newark; Supplier Part Number 4: 41M2375; Supplier 5: Mouser; Supplier Part Number 5: 595-CD4013BM96G4; Output Type: CMOS; Input Type: CMOS; Operating Temperature Range(C): -55 to 125; 3-State Output: No; Code_JEDEC: MS-012; ComponentLink1Description: Manufacturer URL; ComponentLink1URL: http://www.ti.com/; ComponentLink2Description: Datasheet; ComponentLink2URL: http://www.ti.com/lit/ds/symlink/cd4013b.pdf; ComponentLink3Description: Package Specification; ComponentLink3URL: http://www.ti.com/lit/ml/mpds177g/mpds177g.pdf
footprint D0014A_N (SOIC, 14-Leads, Body 8.75x4mm, Pitch 1.27mm, IPC Medium Density)
footprint D0014A_M (SOIC, 14-Leads, Body 8.75x4mm, Pitch 1.27mm, IPC Low Density)
footprint D0014A_L (SOIC, 14-Leads, Body 8.75x4mm, Pitch 1.27mm, IPC High Density)
part A pins: 1 Q1 (out), 2 Q1 (out), 3 CLOCK1 (in), 4 RESET1 (in), 5 D1 (in), 6 SET1 (in)
part B pins: 8 SET2 (in), 9 D2 (in), 10 RESET2 (in), 11 CLOCK2 (in), 12 Q2 (out), 13 Q2 (out)
part C pins: 7 VSS (power), 14 VDD (power)

## CD4013BMT
designator U?
CMOS Dual D-Type Flip Flop, D0014A, SMALL T&R; Generic Part Number: CD4013B; Manufacturer: Texas Instruments; PartNumber: CD4013BMT; VCC(Max)(V): 18; VCC(Min)(V): 3; ICC @ Nom Voltage(Max)(mA): 0.06; Bits(#): 2; F @ Nom Voltage(Max)(Mhz): 8; Rating: Military; Technology Family: CD4000; Voltage(Nom)(V): 10; Schmitt Trigger: No; Output Drive (IOL/IOH)(Max)(mA): 1.5/-1.5; Output Logic: Inverted,Non-inverted; tpd @ Nom Voltage(Max)(ns): 130; DatasheetVersion: SCHS023D; PackageReference: D0014A; Supplier 1: Digi-Key; Supplier Part Number 1: 296-28569-2-ND; Supplier 2: Digi-Key; Supplier Part Number 2: 296-28569-1-ND; Supplier 3: Digi-Key; Supplier Part Number 3: 296-28569-6-ND; Supplier 4: Farnell; Supplier Part Number 4: 2406862; Supplier 5: Mouser; Supplier Part Number 5: 595-CD4013BMT; Output Type: CMOS; Input Type: CMOS; Operating Temperature Range(C): -55 to 125; 3-State Output: No; Code_JEDEC: MS-012; ComponentLink1Description: Manufacturer URL; ComponentLink1URL: http://www.ti.com/; ComponentLink2Description: Datasheet; ComponentLink2URL: http://www.ti.com/lit/ds/symlink/cd4013b.pdf; ComponentLink3Description: Package Specification; ComponentLink3URL: http://www.ti.com/lit/ml/mpds177g/mpds177g.pdf
footprint D0014A_N (SOIC, 14-Leads, Body 8.75x4mm, Pitch 1.27mm, IPC Medium Density)
footprint D0014A_M (SOIC, 14-Leads, Body 8.75x4mm, Pitch 1.27mm, IPC Low Density)
footprint D0014A_L (SOIC, 14-Leads, Body 8.75x4mm, Pitch 1.27mm, IPC High Density)
part A pins: 1 Q1 (out), 2 Q1 (out), 3 CLOCK1 (in), 4 RESET1 (in), 5 D1 (in), 6 SET1 (in)
part B pins: 8 SET2 (in), 9 D2 (in), 10 RESET2 (in), 11 CLOCK2 (in), 12 Q2 (out), 13 Q2 (out)
part C pins: 7 VSS (power), 14 VDD (power)

## CD4013BNSR
designator U?
CMOS Dual D-Type Flip Flop, NS0014A, LARGE T&R; Generic Part Number: CD4013B; Manufacturer: Texas Instruments; PartNumber: CD4013BNSR; VCC(Max)(V): 18; VCC(Min)(V): 3; ICC @ Nom Voltage(Max)(mA): 0.06; Bits(#): 2; F @ Nom Voltage(Max)(Mhz): 8; Rating: Military; Technology Family: CD4000; Voltage(Nom)(V): 10; Schmitt Trigger: No; Output Drive (IOL/IOH)(Max)(mA): 1.5/-1.5; Output Logic: Inverted,Non-inverted; tpd @ Nom Voltage(Max)(ns): 130; DatasheetVersion: SCHS023D; PackageReference: NS0014A; Supplier 1: Digi-Key; Supplier Part Number 1: 296-14088-2-ND; Supplier 2: Digi-Key; Supplier Part Number 2: 296-14088-1-ND; Supplier 3: Digi-Key; Supplier Part Number 3: 296-14088-6-ND; Supplier 4: Farnell; Supplier Part Number 4: 2435632; Supplier 5: Newark; Supplier Part Number 5: 74C3064; Supplier 6: Mouser; Supplier Part Number 6: 595-CD4013BNSR; Output Type: CMOS; Input Type: CMOS; Operating Temperature Range(C): -55 to 125; 3-State Output: No; ComponentLink1Description: Manufacturer URL; ComponentLink1URL: http://www.ti.com/; ComponentLink2Description: Datasheet; ComponentLink2URL: http://www.ti.com/lit/ds/symlink/cd4013b.pdf; ComponentLink3Description: Package Specification; ComponentLink3URL: http://www.ti.com/lit/ml/msop002a/msop002a.pdf
footprint NS0014A_N (SOIC,14-Leads,Body 10.5x5.6mm,Pitch 1.27mm,IPC Medium Density)
footprint NS0014A_M (SOIC,14-Leads,Body 10.5x5.6mm,Pitch 1.27mm,IPC Low Density)
footprint NS0014A_L (SOIC,14-Leads,Body 10.5x5.6mm,Pitch 0.4mm,IPC High Density)
part A pins: 1 Q1 (out), 2 Q1 (out), 3 CLOCK1 (in), 4 RESET1 (in), 5 D1 (in), 6 SET1 (in)
part B pins: 8 SET2 (in), 9 D2 (in), 10 RESET2 (in), 11 CLOCK2 (in), 12 Q2 (out), 13 Q2 (out)
part C pins: 7 VSS (power), 14 VDD (power)

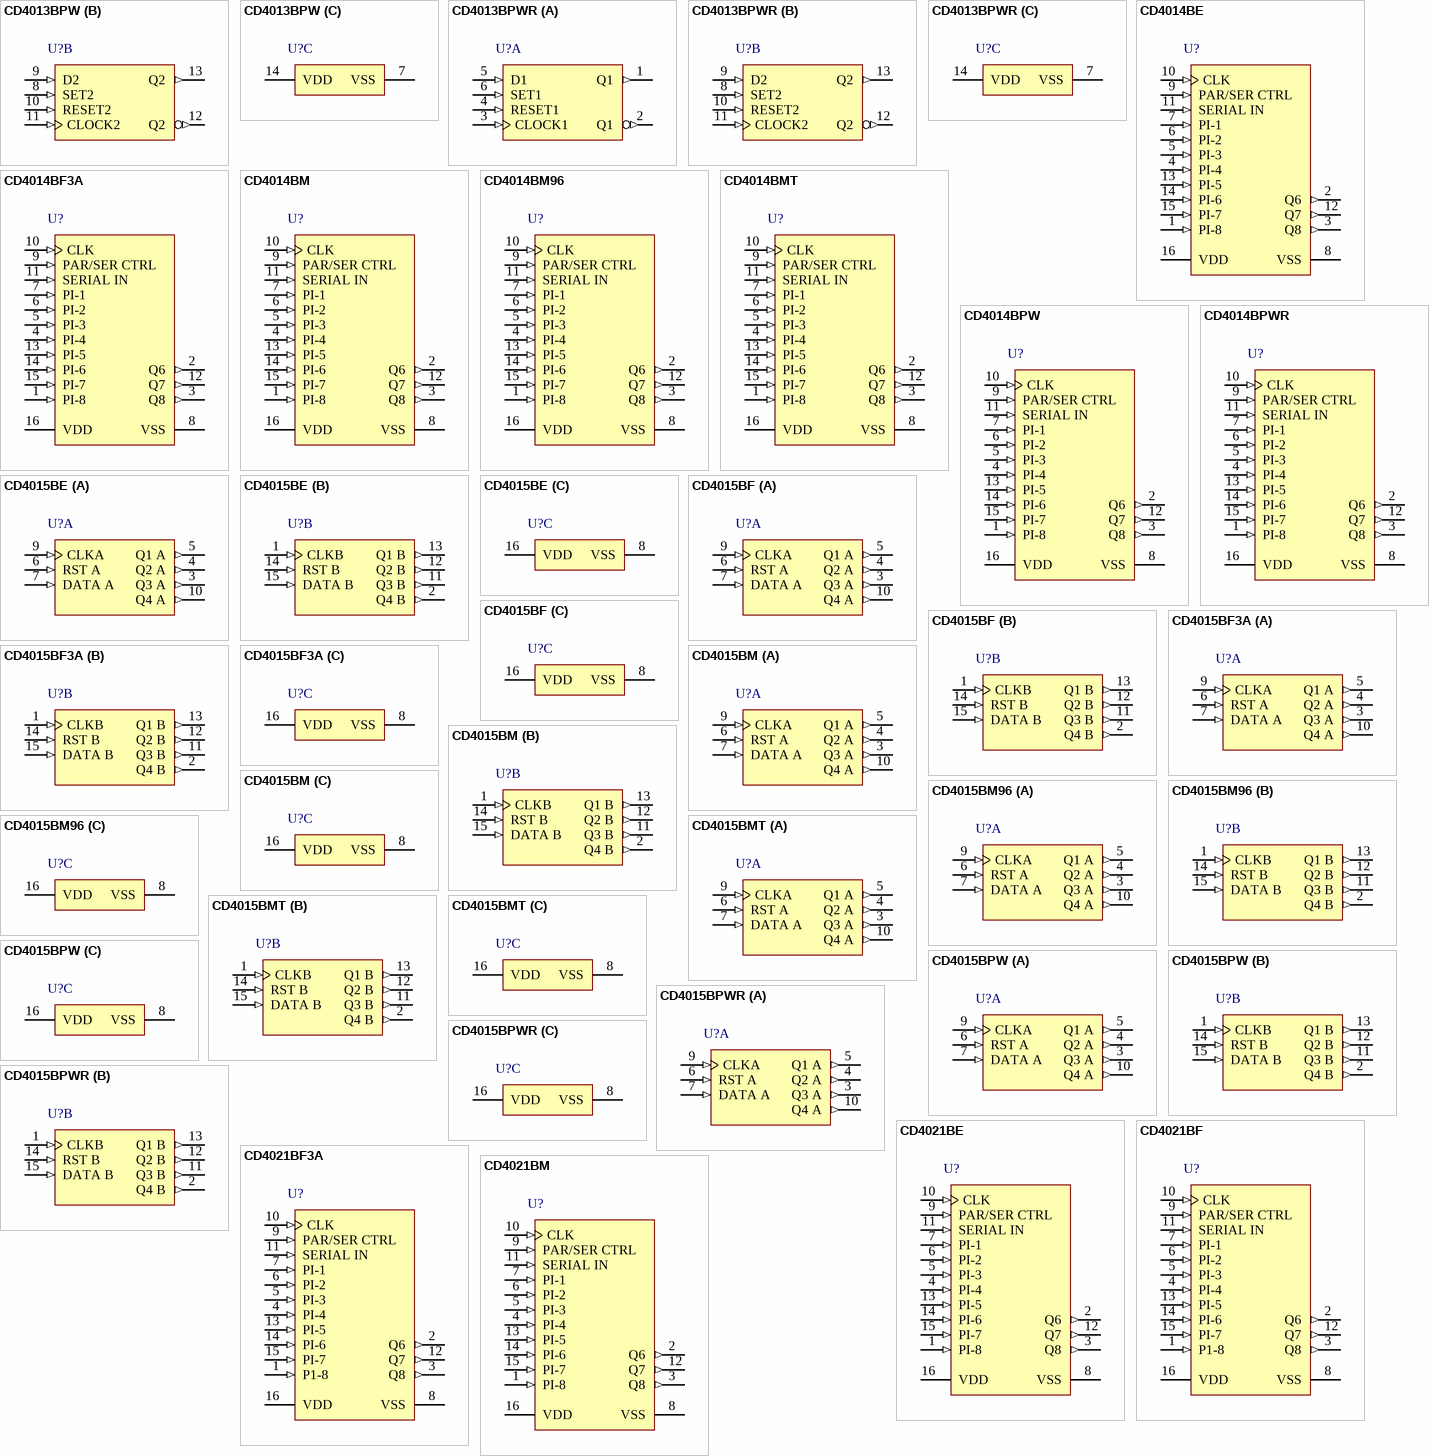
[diagram p20: symbols CD4013BPW to CD4021BM]

## CD4013BPW
designator U?
CMOS Dual D-Type Flip Flop, PW0014A, TUBE; Generic Part Number: CD4013B; Manufacturer: Texas Instruments; PartNumber: CD4013BPW; VCC(Max)(V): 18; VCC(Min)(V): 3; ICC @ Nom Voltage(Max)(mA): 0.06; Bits(#): 2; F @ Nom Voltage(Max)(Mhz): 8; Rating: Military; Technology Family: CD4000; Voltage(Nom)(V): 10; Schmitt Trigger: No; Output Drive (IOL/IOH)(Max)(mA): 1.5/-1.5; Output Logic: Inverted,Non-inverted; tpd @ Nom Voltage(Max)(ns): 130; DatasheetVersion: SCHS023D; PackageReference: PW0014A; Supplier 1: Digi-Key; Supplier Part Number 1: 296-32863-5-ND; Supplier 2: Farnell; Supplier Part Number 2: 1753378; Supplier 3: Newark; Supplier Part Number 3: 34R6806; Supplier 4: Mouser; Supplier Part Number 4: 595-CD4013BPW; Output Type: CMOS; Input Type: CMOS; Operating Temperature Range(C): -55 to 125; 3-State Output: No; Code_JEDEC: MO-153; ComponentLink1Description: Manufacturer URL; ComponentLink1URL: http://www.ti.com/; ComponentLink2Description: Datasheet; ComponentLink2URL: http://www.ti.com/lit/ds/symlink/cd4013b.pdf; ComponentLink3Description: Package Specification; ComponentLink3URL: http://www.ti.com/lit/ml/mpds360/mpds360.pdf
footprint PW0014A_N (SOP, 14-Leads, Body 5.1x4.5mm, Pitch 0.65mm, IPC Medium Density)
footprint PW0014A_M (SOP, 14-Leads, Body 5.1x4.5mm, Pitch 0.65mm, IPC Low Density)
footprint PW0014A_L (SOP, 14-Leads, Body 5.1x4.5mm, Pitch 0.65mm, IPC High Density)
part A pins: 1 Q1 (out), 2 Q1 (out), 3 CLOCK1 (in), 4 RESET1 (in), 5 D1 (in), 6 SET1 (in)
part B pins: 8 SET2 (in), 9 D2 (in), 10 RESET2 (in), 11 CLOCK2 (in), 12 Q2 (out), 13 Q2 (out)
part C pins: 7 VSS (power), 14 VDD (power)

## CD4013BPWR
designator U?
CMOS Dual D-Type Flip Flop, PW0014A, LARGE T&R; Generic Part Number: CD4013B; Manufacturer: Texas Instruments; PartNumber: CD4013BPWR; VCC(Max)(V): 18; VCC(Min)(V): 3; ICC @ Nom Voltage(Max)(mA): 0.06; Bits(#): 2; F @ Nom Voltage(Max)(Mhz): 8; Rating: Military; Technology Family: CD4000; Voltage(Nom)(V): 10; Schmitt Trigger: No; Output Drive (IOL/IOH)(Max)(mA): 1.5/-1.5; Output Logic: Inverted,Non-inverted; tpd @ Nom Voltage(Max)(ns): 130; DatasheetVersion: SCHS023D; PackageReference: PW0014A; Supplier 1: Digi-Key; Supplier Part Number 1: 296-14089-2-ND; Supplier 2: Digi-Key; Supplier Part Number 2: 296-14089-1-ND; Supplier 3: Digi-Key; Supplier Part Number 3: 296-14089-6-ND; Supplier 4: Farnell; Supplier Part Number 4: 2413873; Supplier 5: Farnell; Supplier Part Number 5: 2131191; Supplier 6: Newark; Supplier Part Number 6: 94T4990; Supplier 7: Newark; Supplier Part Number 7: 74C7985; Supplier 8: Mouser; Supplier Part Number 8: 595-CD4013BPWR; Output Type: CMOS; Input Type: CMOS; Operating Temperature Range(C): -55 to 125; 3-State Output: No; Code_JEDEC: MO-153; ComponentLink1Description: Manufacturer URL; ComponentLink1URL: http://www.ti.com/; ComponentLink2Description: Datasheet; ComponentLink2URL: http://www.ti.com/lit/ds/symlink/cd4013b.pdf; ComponentLink3Description: Package Specification; ComponentLink3URL: http://www.ti.com/lit/ml/mpds360/mpds360.pdf
footprint PW0014A_N (SOP, 14-Leads, Body 5.1x4.5mm, Pitch 0.65mm, IPC Medium Density)
footprint PW0014A_M (SOP, 14-Leads, Body 5.1x4.5mm, Pitch 0.65mm, IPC Low Density)
footprint PW0014A_L (SOP, 14-Leads, Body 5.1x4.5mm, Pitch 0.65mm, IPC High Density)
part A pins: 1 Q1 (out), 2 Q1 (out), 3 CLOCK1 (in), 4 RESET1 (in), 5 D1 (in), 6 SET1 (in)
part B pins: 8 SET2 (in), 9 D2 (in), 10 RESET2 (in), 11 CLOCK2 (in), 12 Q2 (out), 13 Q2 (out)
part C pins: 7 VSS (power), 14 VDD (power)

## CD4014BE
designator U?
CMOS 8-Stage Static Shift Register, N0016A, TUBE; Generic Part Number: CD4014B; Manufacturer: Texas Instruments; PartNumber: CD4014BE; Technology Family: CD4000; VCC(Min)(V): 3; VCC(Max)(V): 18; Voltage(Nom)(V): 10; F @ Nom Voltage(Max)(Mhz): 8; ICC @ Nom Voltage(Max)(mA): 0.3; tpd @ Nom Voltage(Max)(ns): 160; Output Drive (IOL/IOH)(Max)(mA): 1.5/-1.5; 3-State Output: No; Rating: Catalog; DatasheetVersion: SCHS024C; PackageReference: N0016A; Input Type: CMOS; Output Type: CMOS; Operating Temperature Range(C): -55 to 125, 0 to 70; Bits: 8; Code_JEDEC: MS-001; ComponentLink1Description: Manufacturer URL; ComponentLink1URL: http://www.ti.com/; ComponentLink2Description: Datasheet; ComponentLink2URL: http://www.ti.com/lit/ds/symlink/cd4014b.pdf; ComponentLink3Description: Package Specification; ComponentLink3URL: http://www.ti.com/lit/ml/mpdi002c/mpdi002c.pdf
footprint N0016A (DIP, 16-Leads, Body 19.7x6.6mm, Pitch 2.54mm)
pins: 1 PI-8 (in), 2 Q6 (out), 3 Q8 (out), 4 PI-4 (in), 5 PI-3 (in), 6 PI-2 (in), 7 PI-1 (in), 8 VSS (power), 9 PAR/SER CTRL (in), 10 CLK (in), 11 SERIAL IN (in), 12 Q7 (out), 13 PI-5 (in), 14 PI-6 (in), 15 PI-7 (in), 16 VDD (power)

## CD4014BF3A
designator U?
CMOS 8-Stage Static Shift Register, J0016A, TUBE; Generic Part Number: CD4014B-MIL; Manufacturer: Texas Instruments; PartNumber: CD4014BF3A; Technology Family: CD4000; VCC(Min)(V): 3; VCC(Max)(V): 18; Voltage(Nom)(V): 10; F @ Nom Voltage(Max)(Mhz): 8; ICC @ Nom Voltage(Max)(mA): 0.3; tpd @ Nom Voltage(Max)(ns): 160; Output Drive (IOL/IOH)(Max)(mA): 1.5/-1.5; 3-State Output: No; Rating: Military; DatasheetVersion: SCHS024C; PackageReference: J0016A; Input Type: CMOS; Output Type: CMOS; Operating Temperature Range(C): -55 to 125; ComponentLink1Description: Manufacturer URL; ComponentLink1URL: http://www.ti.com/; ComponentLink2Description: Datasheet; ComponentLink2URL: http://www.ti.com/lit/ds/symlink/cd4014b-mil.pdf; ComponentLink3Description: Package Specification; ComponentLink3URL: http://www.ti.com/lit/ml/mcer002d/mcer002d.pdf
footprint J0016A (DIP, 16-Leads, Body 21.35x7.2mm, Pitch 2.54mm)
pins: 1 PI-8 (in), 2 Q6 (out), 3 Q8 (out), 4 PI-4 (in), 5 PI-3 (in), 6 PI-2 (in), 7 PI-1 (in), 8 VSS (power), 9 PAR/SER CTRL (in), 10 CLK (in), 11 SERIAL IN (in), 12 Q7 (out), 13 PI-5 (in), 14 PI-6 (in), 15 PI-7 (in), 16 VDD (power)

## CD4014BM
designator U?
CMOS 8-Stage Static Shift Register, D0016A, TUBE; Generic Part Number: CD4014B; Manufacturer: Texas Instruments; PartNumber: CD4014BM; Technology Family: CD4000; VCC(Min)(V): 3; VCC(Max)(V): 18; Voltage(Nom)(V): 10; F @ Nom Voltage(Max)(Mhz): 8; ICC @ Nom Voltage(Max)(mA): 0.3; tpd @ Nom Voltage(Max)(ns): 160; Output Drive (IOL/IOH)(Max)(mA): 1.5/-1.5; 3-State Output: No; Rating: Catalog; DatasheetVersion: SCHS024C; PackageReference: D0016A; Input Type: CMOS; Output Type: CMOS; Operating Temperature Range(C): -55 to 125, 0 to 70; Code_JEDEC: MS-012 variation AC; ComponentLink1Description: Manufacturer URL; ComponentLink1URL: http://www.ti.com/; ComponentLink2Description: Datasheet; ComponentLink2URL: http://www.ti.com/lit/ds/symlink/cd4014b.pdf; ComponentLink3Description: Package Specification; ComponentLink3URL: http://www.ti.com/lit/ml/mpds178g/mpds178g.pdf
footprint D0016A_N (SOIC, 16-Leads, Body 10x4mm, Pitch 1.27mm, IPC Medium Density)
footprint D0016A_M (SOIC, 16-Leads, Body 10x4mm, Pitch 1.27mm, IPC Low Density)
footprint D0016A_L (SOIC, 16-Leads, Body 10x4mm, Pitch 1.27mm, IPC High Density)
pins: 1 PI-8 (in), 2 Q6 (out), 3 Q8 (out), 4 PI-4 (in), 5 PI-3 (in), 6 PI-2 (in), 7 PI-1 (in), 8 VSS (power), 9 PAR/SER CTRL (in), 10 CLK (in), 11 SERIAL IN (in), 12 Q7 (out), 13 PI-5 (in), 14 PI-6 (in), 15 PI-7 (in), 16 VDD (power)